# EAGLE library part 6620XX21122_66200621122 (library 66200211022_Eagle_WR-MPC3_rev19b)
WR-MPC3 3.00 mm Male Dual Row Vertical Header KIND PROPERTIES: Pitch:3 mm Gender:Male MATERIAL PROPERTIES: Insulator Material:LCP Insulator Flammability Rating:UL94 V-0 Insulator Color:Black Contact Material:Copper Alloy Contact Plating:Tin Contact Type:Stamped GENERAL INFORMATION Operating Temperature:-40 up to +105 °C Working Voltage:250V (AC) Withstanding Voltage:1500 V (AC) Contact Resistance:10 mΩ RISO:1000 MΩ CERTIFICATION UL Approval:E323964 PACKAGING PROPERTIES Packaging:Tube <https://katalog.we-online.com/media/images/v2/o33170v209%20Family_WR-MPC3_6620xx21122.jpg> Details see: https://katalog.we-online.com/en/em/MPC3_3_00_MALE_DUAL_ROW_VERTICAL_HEADER_6620XX21122 Updated by Yingchun,Shan 2019-11-13 2019 (C) Würth Elektronik
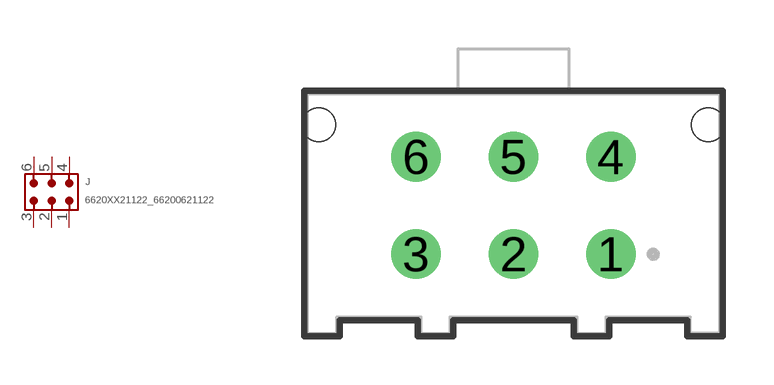
[diagram p7: symbol with the pads of 66200621122; footprint 66200621122]

Designator prefix J

## 6620XX21122_66200621122 (CONTACT-RESISTANCE: 10Ohm; DATASHEET-URL: https://katalog.we-online.com/em/datasheet/66200621122.pdf; GENDER: Male; IR1: 5A; L: 12.7mm; MATE-WITH: WR-MPC3 3.00 mm Female Dual Row Receptacle; MOUNT: THT; PACKAGING: Tube; PART-NUMBER: 66200621122; PCB-CABLE-PANEL: PCB; PINS: 6; PITCH: 3mm; ROWS: Dual; TOL-R: max.; TYPE: Vertical; WORKING-VOLTAGE: 250V(AC))  [66200621122]
1  1  pas
2  2  pas
3  3  pas
4  4  pas
5  5  pas
6  6  pas

## Footprint 66200621122 (pad centres in mm)
WR-MPC3 3.00 mm Male Dual Row Vertical Header,6 pins
drill 1.02: 1 3,-1.5; 2 0,-1.5; 3 -3,-1.5; 4 3,1.5; 5 0,1.5; 6 -3,1.5
hole 1.02 at -6,2.49
hole 1.02 at 6,2.49